# Altium integrated library idk.IntLib: 21 symbols
Pins are listed as number, name and electrical type; pins without a type are passive.

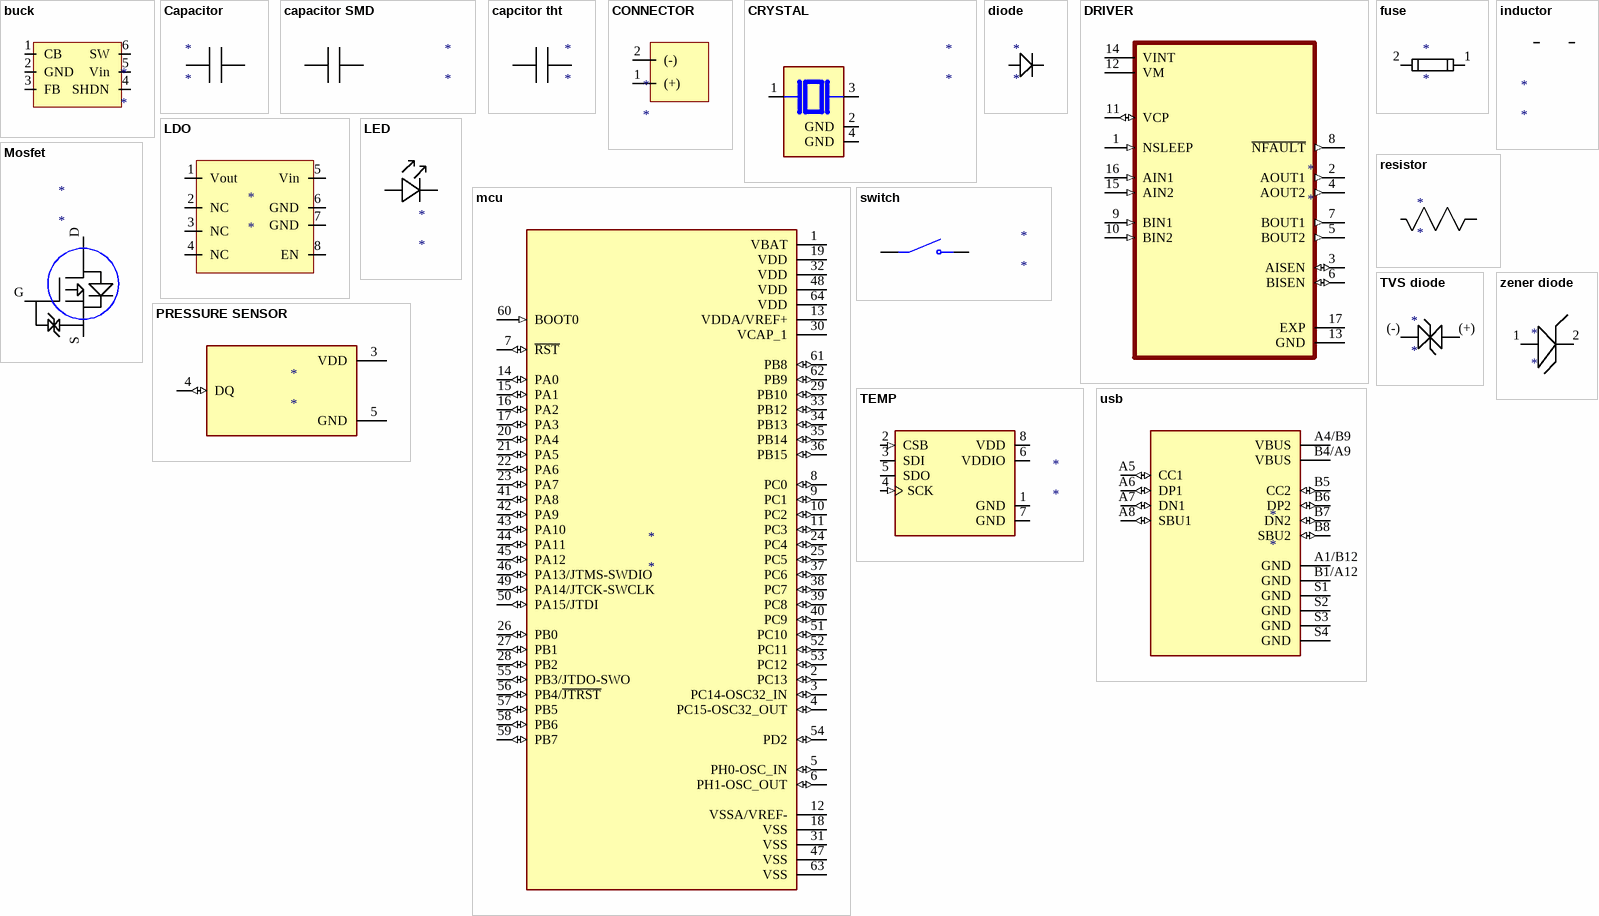
[diagram p0: symbols buck to zener diode]

## buck
designator *
footprint buck
pins: 1 CB, 2 GND, 3 FB, 4 SHDN, 5 Vin, 6 SW

## Capacitor
designator *
footprint capacitor
pins: 1 6, 2 5

## capacitor SMD
designator *
footprint capacitor smd
pins: 1 6, 2 5

## capcitor tht
designator *
footprint capacitor tht
pins: 1 6, 2 5

## CONNECTOR
designator *
footprint connector
pins: 1 (+), 2 (-)

## CRYSTAL
designator *
footprint PCBComponent_1
pins: 1, 2 GND (power), 3 2, 4 GND (power)

## diode
designator *
footprint diode
pins: 1 24, 2 23

## DRIVER
designator *
footprint DRIVER
pins: 1 NSLEEP (in), 2 AOUT1 (out), 3 AISEN (io), 4 AOUT2 (out), 5 BOUT2 (out), 6 BISEN (io), 7 BOUT1 (out), 8 ~{NFAULT} (out), 9 BIN1 (in), 10 BIN2 (in), 11 VCP (io), 12 VM (power), 13 GND (power), 14 VINT (power), 15 AIN2 (in), 16 AIN1 (in), 17 EXP

## fuse
designator *
footprint fuse
pins: 1 22, 2 21

## inductor
designator *
footprint inductor
pins: 1 25, 2

## LDO
designator *
footprint LDO
pins: 1 Vout, 2 NC, 3 NC, 4 NC, 5 Vin, 6 GND, 7 GND, 8 EN

## LED
designator *
footprint led
pins: 1 21, 2 22

## mcu
designator *
footprint mcu
pins: 1 VBAT (power), 2 PC13 (io), 3 PC14-OSC32_IN (io), 4 PC15-OSC32_OUT (io), 5 PH0-OSC_IN (io), 6 PH1-OSC_OUT (io), 7 ~{RST} (io), 8 PC0 (io), 9 PC1 (io), 10 PC2 (io), 11 PC3 (io), 12 VSSA/VREF- (power), 13 VDDA/VREF+ (power), 14 PA0 (io), 15 PA1 (io), 16 PA2 (io), 17 PA3 (io), 18 VSS (power), 19 VDD (power), 20 PA4 (io), 21 PA5 (io), 22 PA6 (io), 23 PA7 (io), 24 PC4 (io), 25 PC5 (io), 26 PB0 (io), 27 PB1 (io), 28 PB2 (io), 29 PB10 (io), 30 VCAP_1 (power), 31 VSS (power), 32 VDD (power), 33 PB12 (io), 34 PB13 (io), 35 PB14 (io), 36 PB15 (io), 37 PC6 (io), 38 PC7 (io), 39 PC8 (io), 40 PC9 (io), 41 PA8 (io), 42 PA9 (io), 43 PA10 (io), 44 PA11 (io), 45 PA12 (io), 46 PA13/JTMS-SWDIO (io), 47 VSS (power), 48 VDD (power), 49 PA14/JTCK-SWCLK (io), 50 PA15/JTDI (io), 51 PC10 (io), 52 PC11 (io), 53 PC12 (io), 54 PD2 (io), 55 PB3/JTDO-SWO (io), 56 PB4/~{JTRST} (io), 57 PB5 (io), 58 PB6 (io), 59 PB7 (io), 60 BOOT0 (in), 61 PB8 (io), 62 PB9 (io), 63 VSS (power), 64 VDD (power)

## Mosfet
designator *
footprint Mosfet-DMP3007LSS
pins: D 16, G 18, S 17

## PRESSURE SENSOR
designator *
footprint PRESSURE
pins: 3 VDD (power), 4 DQ (io), 5 GND (power)

## resistor
designator *
footprint resistor
pins: 1 3, 2 4

## switch
designator *
footprint switch
pins: 3 NO, 3, 4 NO

## TEMP
designator *
footprint TEMP SENSOR
pins: 1 GND (power), 2 CSB (in), 3 SDI (io), 4 SCK (in), 5 SDO (io), 6 VDDIO (power), 7 GND (power), 8 VDD (power)

## TVS diode
designator *
footprint tvs diode
pins: (+) anode, (-) cathode

## usb
designator *
footprint USB
pins: A1/B12 GND (power), A4/B9 VBUS (power), A5 CC1 (io), A6 DP1 (io), A7 DN1 (io), A8 SBU1 (io), B1/A12 GND (power), B4/A9 VBUS (power), B5 CC2 (io), B6 DP2 (io), B7 DN2 (io), B8 SBU2 (io), S1 GND (power), S2 GND (power), S3 GND (power), S4 GND (power)

## zener diode
designator *
footprint zener diode
pins: 1 (+), 2 (-)